# EAGLE library part MX25L51245GMI-10G (library MX25L51245GMI-10G)
MX25L51245GMI-10G, Serial NOR Flash Memory, 128M x 4 bit, 256M x 2 bit, 512M x 1 bit 512Mbit, 2.7 3.6 V Source: Datasheet <http://docs-asia.electrocomponents.com/webdocs/14ac/0900766b814ac719.pdf>
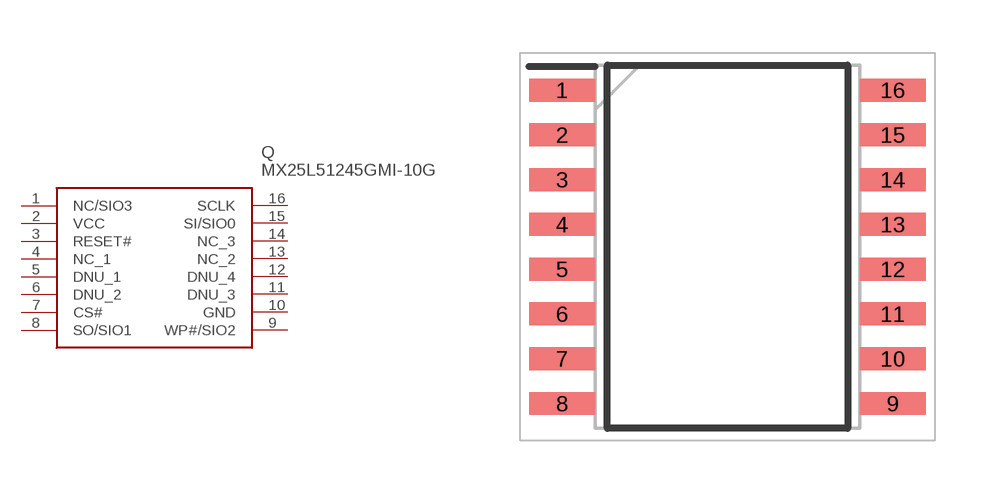
[diagram p0: symbol with the pads of SOIC127P1030X265-16N; footprint SOIC127P1030X265-16N]

Designator prefix Q

## MX25L51245GMI-10G (Arrow_Part_Number: MX25L51245GMI-10G; Arrow_Price-Stock: https://www.arrow.com/en/products/mx25l51245gmi-10g/macronix-international; Description: MX25L51245GMI-10G, Serial NOR Flash Memory, 128M x 4 bit, 256M x 2 bit, 512M x 1 bit 512Mbit, 2.7 3.6 V; Height: 2.65mm; Manufacturer_Name: Macronix; Manufacturer_Part_Number: MX25L51245GMI-10G; RS_Part_Number: 9140674; RS_Price-Stock: http://uk.rs-online.com/web/p/products/9140674)  [SOIC127P1030X265-16N]
1  NC/SIO3
2  VCC
3  RESET#
4  NC_1
5  DNU_1
6  DNU_2
7  CS#
8  SO/SIO1
9  WP#/SIO2
10  GND
11  DNU_3
12  DNU_4
13  NC_2
14  NC_3
15  SI/SIO0
16  SCLK

## Footprint SOIC127P1030X265-16N (pad centres in mm)
SOP
smd 1.87 x 0.65: 1 -4.69,4.445; 2 -4.69,3.175; 3 -4.69,1.905; 4 -4.69,0.635; 5 -4.69,-0.635; 6 -4.69,-1.905; 7 -4.69,-3.175; 8 -4.69,-4.445; 9 4.69,-4.445; 10 4.69,-3.175; 11 4.69,-1.905; 12 4.69,-0.635; 13 4.69,0.635; 14 4.69,1.905; 15 4.69,3.175; 16 4.69,4.445